# EAGLE library part ESP32DEVKITC (library 000_nl2)
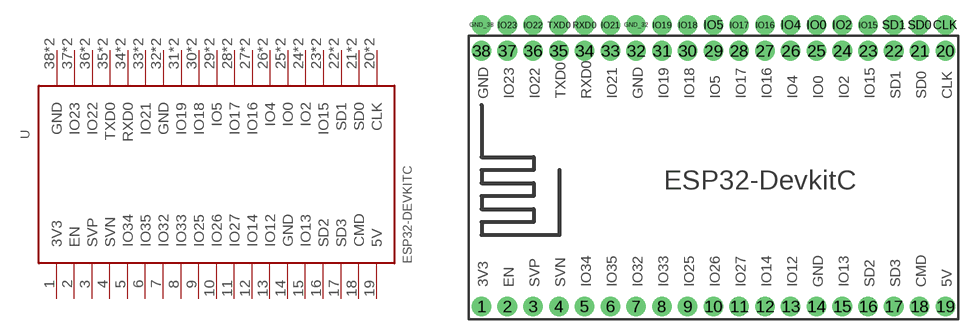
[diagram p5: symbol with the pads of ESP32-DEVKITC; footprint ESP32-DEVKITC]

Designator prefix -

## ESP32DEVKITC  [ESP32-DEVKITC]
1  3V3
2  EN
3  SVP
4  SVN
5  IO34
6  IO35
7  IO32
8  IO33
9  IO25
10  IO26
11  IO27
12  IO14
13  IO12
14  GND
15  IO13
16  SD2
17  SD3
18  CMD
19  5V
20  CLK
21  SD0
22  SD1
23  IO15
24  IO2
25  IO0
26  IO4
27  IO16
28  IO17
29  IO5
30  IO18
31  IO19
32  GND
33  IO21
34  RXD0
35  TXD0
36  IO22
37  IO23
38  GND
CLK  CLK
GND_32  GND
GND_38  GND
IO0  IO0
IO2  IO2
IO4  IO4
IO5  IO5
IO15  IO15
IO16  IO16
IO17  IO17
IO18  IO18
IO19  IO19
IO21  IO21
IO22  IO22
IO23  IO23
RXD0  RXD0
SD0  SD0
SD1  SD1
TXD0  TXD0

## Footprint ESP32-DEVKITC (pad centres in mm)
drill 1 pad 1.93: 1 -22.87,-12.69; 2 -20.33,-12.69; 3 -17.79,-12.69; 4 -15.25,-12.69; 5 -12.71,-12.69; 6 -10.17,-12.69; 7 -7.63,-12.69; 8 -5.09,-12.69; 9 -2.55,-12.69; 10 -0.01,-12.69; 11 2.53,-12.69; 12 5.07,-12.69; 13 7.61,-12.69; 14 10.15,-12.69; 15 12.69,-12.69; 16 15.23,-12.69; 17 17.77,-12.69; 18 20.31,-12.69; 19 22.85,-12.69; 20 22.85,12.5; 21 20.31,12.5; 22 17.77,12.5; 23 15.23,12.5; 24 12.69,12.5; 25 10.15,12.5; 26 7.61,12.5; 27 5.07,12.5; 28 2.53,12.5; 29 -0.01,12.5; 30 -2.55,12.5; 31 -5.09,12.5; 32 -7.63,12.5; 33 -10.17,12.5; 34 -12.71,12.5; 35 -15.25,12.5; 36 -17.79,12.5; 37 -20.33,12.5; 38 -22.87,12.5; CLK 22.85,15.04; GND_32 -7.63,15.04; GND_38 -22.87,15.04; IO0 10.15,15.04; IO2 12.69,15.04; IO4 7.61,15.04; IO5 -0.01,15.04; IO15 15.23,15.04; IO16 5.07,15.04; IO17 2.53,15.04; IO18 -2.55,15.04; IO19 -5.09,15.04; IO21 -10.17,15.04; IO22 -17.79,15.04; IO23 -20.33,15.04; RXD0 -12.71,15.04; SD0 20.31,15.04; SD1 17.77,15.04; TXD0 -15.25,15.04